# Altium schematic symbol library ISG-PLL-PCBA.SchLib: 1 symbol
Pins are listed as number, name and electrical type; pins without a type are passive.

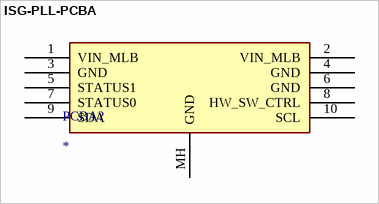
[diagram p0: symbol ISG-PLL-PCBA]

## ISG-PLL-PCBA
designator PCBA?
footprint ISG-PLL-PCBA
pins: 1 VIN_MLB, 2 VIN_MLB, 3 GND, 4 GND, 5 STATUS1, 6 GND, 7 STATUS0, 8 HW_SW_CTRL, 9 SDA, 10 SCL, MH GND